# Altium schematic symbol library SCH - AMP AUDIO - ANALOG SSM2375CBZ-REEL.SchLib: 1 symbol
Pins are listed as number, name and electrical type; pins without a type are passive.

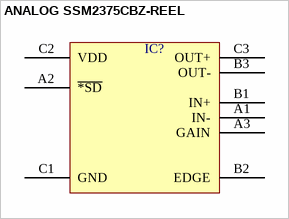
[diagram p0: symbol ANALOG SSM2375CBZ-REEL]

## ANALOG SSM2375CBZ-REEL
designator IC?  (value not drawn)
pins: A1 IN-, A2 ~{*SD}, A3 GAIN, B1 IN+, B2 EDGE, B3 OUT-, C1 GND, C2 VDD, C3 OUT+